# EAGLE library part 6550 (library commodore)
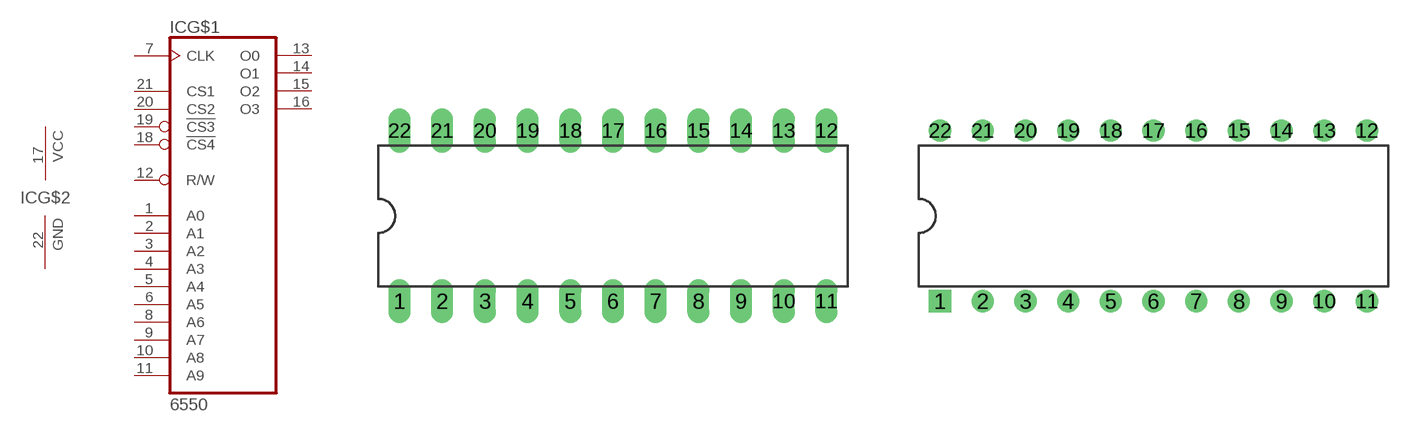
[diagram p54: symbol with the pads of DIL22/4; footprints DIL22/4, DIL22/4-ROUNDPAD]

Designator prefix IC; gates G$1=6550 G$2=PWR-GND

## 6550  [DIL22/4]
1  G$1:A0  in
2  G$1:A1  in
3  G$1:A2  in
4  G$1:A3  in
5  G$1:A4  in
6  G$1:A5  in
7  G$1:CLK  in
8  G$1:A6  in
9  G$1:A7  in
10  G$1:A8  in
11  G$1:A9  in
12  G$1:R/W  in
13  G$1:O0  hiz
14  G$1:O1  hiz
15  G$1:O2  hiz
16  G$1:O3  hiz
17  G$2:VCC  pwr
18  G$1:!CS4  in
19  G$1:!CS3  in
20  G$1:CS2  in
21  G$1:CS1  in
22  G$2:GND  pwr

## 6550-RP  [DIL22/4-ROUNDPAD]
Pads as for DIL22/4

## 6550-ST  [DIL22/4-SMD]
Pads as for DIL22/4

## 6550-SB  [DIL22/4-SMD-REVERSE]
Pads as for DIL22/4

## Footprint DIL22/4 (pad centres in mm)
drill 0.813 long: 1 -12.7,-5.08; 2 -10.16,-5.08; 3 -7.62,-5.08; 4 -5.08,-5.08; 5 -2.54,-5.08; 6 0,-5.08; 7 2.54,-5.08; 8 5.08,-5.08; 9 7.62,-5.08; 10 10.16,-5.08; 11 12.7,-5.08; 12 12.7,5.08; 13 10.16,5.08; 14 7.62,5.08; 15 5.08,5.08; 16 2.54,5.08; 17 0,5.08; 18 -2.54,5.08; 19 -5.08,5.08; 20 -7.62,5.08; 21 -10.16,5.08; 22 -12.7,5.08

## Footprint DIL22/4-ROUNDPAD (pad centres in mm)
drill 0.813 square: 1 -12.7,-5.08
drill 0.813: 2 -10.16,-5.08; 3 -7.62,-5.08; 4 -5.08,-5.08; 5 -2.54,-5.08; 6 0,-5.08; 7 2.54,-5.08; 8 5.08,-5.08; 9 7.62,-5.08; 10 10.16,-5.08; 11 12.7,-5.08; 12 12.7,5.08; 13 10.16,5.08; 14 7.62,5.08; 15 5.08,5.08; 16 2.54,5.08; 17 0,5.08; 18 -2.54,5.08; 19 -5.08,5.08; 20 -7.62,5.08; 21 -10.16,5.08; 22 -12.7,5.08

## Footprint DIL22/4-SMD (pad centres in mm)
smd 1 x 3.5: 1 -12.7,-6.38; 2 -10.16,-6.38; 3 -7.62,-6.38; 4 -5.08,-6.38; 5 -2.54,-6.38; 6 0,-6.38; 7 2.54,-6.38; 8 5.08,-6.38; 9 7.62,-6.38; 10 10.16,-6.38; 11 12.7,-6.38; 12 12.7,6.38; 13 10.16,6.38; 14 7.62,6.38; 15 5.08,6.38; 16 2.54,6.38; 17 0,6.38; 18 -2.54,6.38; 19 -5.08,6.38; 20 -7.62,6.38; 21 -10.16,6.38; 22 -12.7,6.38

## Footprint DIL22/4-SMD-REVERSE (pad centres in mm)
smd 1 x 3.5 bottom: 1 -12.7,-6.38; 2 -10.16,-6.38; 3 -7.62,-6.38; 4 -5.08,-6.38; 5 -2.54,-6.38; 6 0,-6.38; 7 2.54,-6.38; 8 5.08,-6.38; 9 7.62,-6.38; 10 10.16,-6.38; 11 12.7,-6.38; 12 12.7,6.38; 13 10.16,6.38; 14 7.62,6.38; 15 5.08,6.38; 16 2.54,6.38; 17 0,6.38; 18 -2.54,6.38; 19 -5.08,6.38; 20 -7.62,6.38; 21 -10.16,6.38; 22 -12.7,6.38